# EAGLE library part USB3 (library DodoLcd)
connettore USB verticale
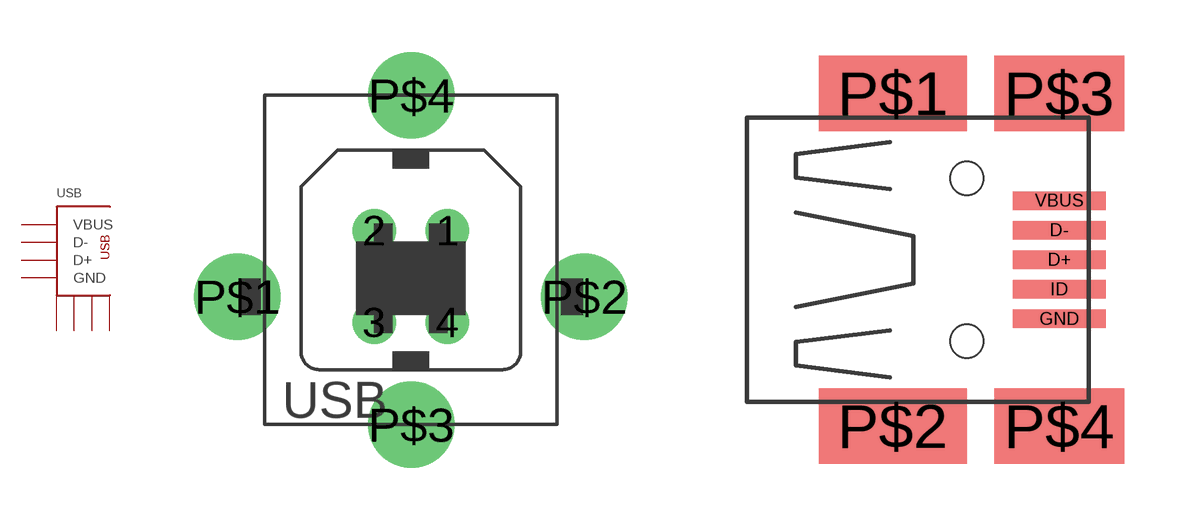
[diagram p6: symbol with the pads of USBVERT; footprints USBVERT, USB-MB-S]

Designator prefix USB

## USB3  [USBVERT]
1  VBUS
2  D-
3  D+
4  GND
P$1  GND
P$2  GND
P$3  GND
P$4  GND

## USB3MINI  [USB-MB-S]
D+  D+
D-  D-
GND  GND
P$1  GND
P$2  GND
P$3  GND
P$4  GND
VBUS  VBUS

## Footprint USBVERT (pad centres in mm)
USB CONNECTOR VERTICAL
drill 1 round: 1 1.27,1.651; 2 -1.27,1.651; 3 -1.27,-1.524; 4 1.27,-1.524
drill 2 round: P$1 -6.02,-0.635; P$2 6.02,-0.635; P$3 0.013,-5.08; P$4 0.013,6.35

## Footprint USB-MB-S (pad centres in mm)
USB Series Mini-B Surface Mounted
smd 2.5 x 0.5: D+ 2.5,0; D- 2.5,0.8; GND 2.5,-1.6; ID 2.5,-0.8; VBUS 2.5,1.6
smd 4 x 2.05: P$1 -2,4.5; P$2 -2,-4.5
smd 3.5 x 2.05: P$3 2.5,4.5; P$4 2.5,-4.5
hole 0.9 at 0,2.2
hole 0.9 at 0,-2.2